# EAGLE library part IN12-MK2 (library FHD-Boards)
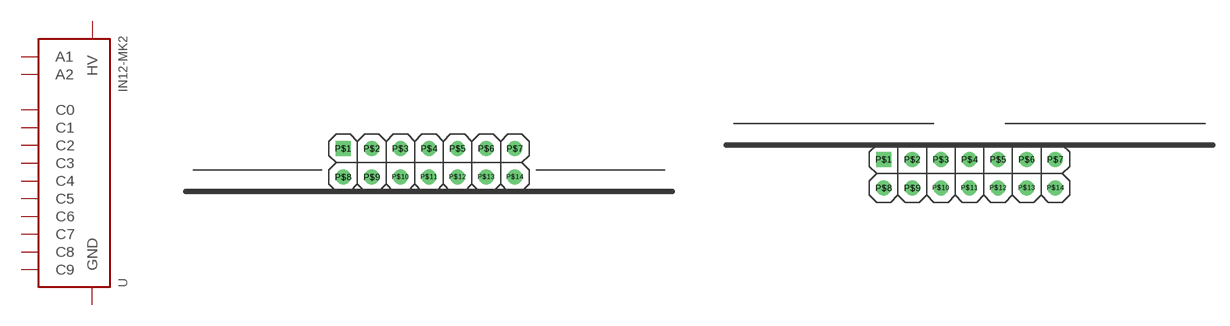
[diagram p1: symbol with the pads of IN2_MKII_BACK; footprints IN2_MKII_BACK, IN2_MKII_FRONT]

Designator prefix -

## IN12-MK2BACK  [IN2_MKII_BACK]
P$1  C6
P$2  C7
P$3  C8
P$4  C9
P$5  C0
P$6  HV
P$7  A1
P$8  C5
P$9  C4
P$10  C3
P$11  C2
P$12  C1
P$13  GND
P$14  A2

## IN12-MK2FRONT  [IN2_MKII_FRONT]
P$1  C5
P$2  C4
P$3  C3
P$4  C2
P$5  C1
P$6  GND
P$7  A2
P$8  C6
P$9  C7
P$10  C8
P$11  C9
P$12  C0
P$13  HV
P$14  A1

## Footprint IN2_MKII_BACK (pad centres in mm)
drill 0.8 square: P$1 -7.62,-1.27
drill 0.8: P$2 -5.08,-1.27; P$3 -2.54,-1.27; P$4 0,-1.27; P$5 2.54,-1.27; P$6 5.08,-1.27; P$7 7.62,-1.27; P$8 -7.62,-3.81; P$9 -5.08,-3.81; P$10 -2.54,-3.81; P$11 0,-3.81; P$12 2.54,-3.81; P$13 5.08,-3.81; P$14 7.62,-3.81

## Footprint IN2_MKII_FRONT (pad centres in mm)
drill 0.8 square: P$1 -7.62,-1.27
drill 0.8: P$2 -5.08,-1.27; P$3 -2.54,-1.27; P$4 0,-1.27; P$5 2.54,-1.27; P$6 5.08,-1.27; P$7 7.62,-1.27; P$8 -7.62,-3.81; P$9 -5.08,-3.81; P$10 -2.54,-3.81; P$11 0,-3.81; P$12 2.54,-3.81; P$13 5.08,-3.81; P$14 7.62,-3.81